# EAGLE library part BCM847 (library 0SBLib)
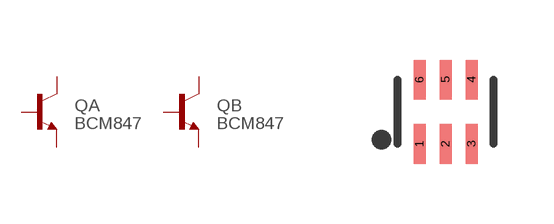
[diagram p37: symbol with the pads of SOT363; footprint SOT363]

Designator prefix Q; gates A=NPN B=NPN

## BCM847BS  [SOT363]
1  A:E  pas
2  A:B  pas
3  B:C  pas
4  B:E  pas
5  B:B  pas
6  A:C  pas

## Footprint SOT363 (pad centres in mm)
smd 0.3 x 0.99: 1 -0.65,-0.8; 2 0,-0.8; 3 0.65,-0.8; 4 0.65,0.81; 5 0,0.81; 6 -0.65,0.81